# Altium footprint library DcDc_Converter_Pcb.PcbLib: 2 footprints
Each footprint in its own frame and in the unit in brackets; x right, y up, seen from the top. Pads: shape width x height; smd on the part's side, far side on the other; paste and mask are expansions set on the pad; w line width, h text height; cw(c..) or ccw(c..) is an arc to the next point about the centre after c.
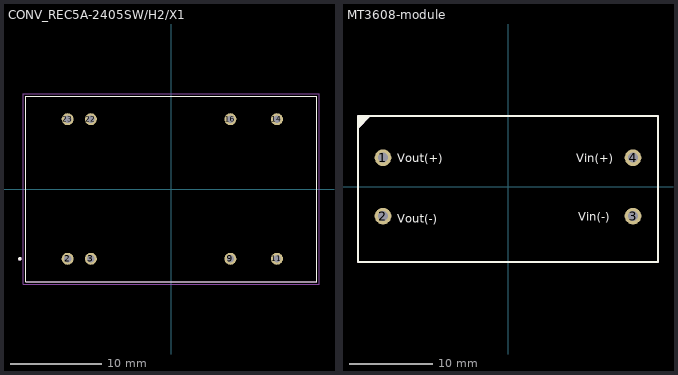
[diagram p0: the footprints below, top view; thin cyan lines are the x and y axes]

## CONV_REC5A-2405SW/H2/X1 [mm]
pads (8):
  round 1.308 hole 0.8: 2(-11.3,-7.62) 3(-8.76,-7.62) 9(6.48,-7.62) 11(11.56,-7.62) 14(11.56,7.62) 16(6.48,7.62) 22(-8.76,7.62) 23(-11.3,7.62)
Top Overlay:
  circle w0.2: c-16.51,-7.62 r0.1
  lines w0.127: -15.9,-10.15 15.9,-10.15 15.9,10.15 -15.9,10.15 -15.9,-10.15
Mechanical 13:
  circle w0.2: c-16.51,-7.62 r0.1
  lines w0.127: -15.9,-10.15 15.9,-10.15 15.9,10.15 -15.9,10.15 -15.9,-10.15
Mechanical 15:
  lines w0.05: -16.15,-10.4 16.15,-10.4 16.15,10.4 -16.15,10.4 -16.15,-10.4
3D body "REC3A-2405SW-H2-X1--3DModel-STEP-1.STEP": height 10.41, standoff -3.6, extent -15.8,-10.15 16,10.15

## MT3608-module [mm]
pads (4):
  round 2 hole 1.2: 1(-15,3.5) 2(-15,-3.5) 3(15,-3.5) 4(15,3.5)
Top Overlay:
  region: -18,8.5 -16.5,8.5 -18,7
  lines w0.2: -18,-9 -18,8.5 0,8.5 18,8.5 18,-9 -18,-9
  text "Vin(+)" at 8.2,2.95 h1
  text "Vin(-)" at 8.45,-4.05 h1
  text "Vout(+)" at -13.3,2.95 h1
  text "Vout(-)" at -13.3,-4.3 h1
Mechanical 29:
  region: -18,8.5 -16.5,8.5 -18,7
  lines w0.2: -18,-9 -18,8.5 0,8.5 18,8.5 18,-9 -18,-9
3D body "MT3608-Module.STEP": height 7.5, standoff -0.94, extent -18.5,-8.75 18.5,8.65